# EAGLE library part WE-TVS_SC70-6L_82402375 (library 824031815_Eagle_WE-TVS_rev20a)
WE-TVS TVS Diode – Standard Series Characteristics Fast turn-on Low clamping voltage High ESD withstand voltage Uni- or bidirectional protection Small package Epoxy flame resistant UL94 V-0 Applications DC power supply USB Power Delivery (PD) Headsets and accessories PDAs Digital cameras MP3-Player Touch Panels Notebooks ESD, EFT and Surge Protection ESD protection in accordance with EN 61000-4-2 – 8 kV contact discharge – 15 kV air discharge <https://katalog.we-online.com/media/images/v2/o106433v209%20Family_WE-TVS_Standard.jpg> Details see: https://katalog.we-online.com/en/pbs/WE-TVS Updated by Ella Wu 2019-07-12 2019 (C) Wurth Elektronik
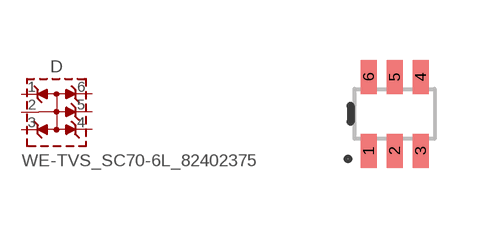
[diagram p10: symbol with the pads of WE-TVS_SC70-6L; footprint WE-TVS_SC70-6L]

Designator prefix D

## WE-TVS_SC70-6L_82402375 (C-CH: 13pF; CHANNELS: 5; DATASHEET-URL: https://www.we-online.com/catalog/datasheet/82402375.pdf; IPEAK: 6A; MOUNT: SMT; PART-NUMBER: 82402375; VALUE: 5Vdc; VBR: 6V)  [WE-TVS_SC70-6L]
1  1  pas
2  GND  pas
3  2  pas
4  3  pas
5  4  pas
6  5  pas

## Footprint WE-TVS_SC70-6L (pad centres in mm)
WE-TVS TVS Diode Size: SC70-6L L X W X H = 2mm X2.2mm X 1mm
smd 0.4 x 0.85: 1 -0.65,-0.925; 2 0,-0.925; 3 0.65,-0.925; 4 0.65,0.925; 5 0,0.925; 6 -0.65,0.925